# EAGLE library part LCD_16X2 (library LCD)
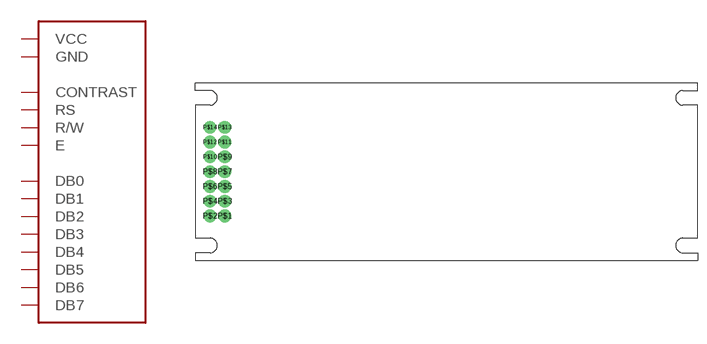
[diagram p0: symbol with the pads of LCD_16X2; footprint LCD_16X2]

Designator prefix -

## LCD_16X2  [LCD_16X2]
P$1  VCC
P$2  GND
P$3  CONTRAST
P$4  RS
P$5  R/W
P$6  E
P$7  DB0
P$8  DB1
P$9  DB2
P$10  DB3
P$11  DB4
P$12  DB5
P$13  DB6
P$14  DB7

## Footprint LCD_16X2 (pad centres in mm)
drill 1 pad 2.184 round: P$1 5.08,7.62; P$2 2.54,7.62; P$3 5.08,10.16; P$4 2.54,10.16; P$5 5.08,12.7; P$6 2.54,12.7; P$7 5.08,15.24; P$8 2.54,15.24; P$9 5.08,17.78; P$10 2.54,17.78; P$11 5.08,20.32; P$12 2.54,20.32; P$13 5.08,22.86; P$14 2.54,22.86